# Altium schematic symbol library QBLP595-IG.SchLib: 1 symbol
Pins are listed as number, name and electrical type; pins without a type are passive.

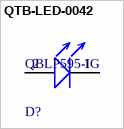
[diagram p0: symbol QTB-LED-0042]

## QTB-LED-0042
designator D?, comment QBLP595-IG
LED GREEN CLEAR 0402 SMD; Manufacturer: QT Brightek (QTB); Luminous Intensity: 600mcd; Viewing Angle: 140°; Forward Voltage: 3.1V; Test Current: 20mA; Dominant Wavelength: 520nm; Lens Style: Flat; Lens Color: Colorless; Lens Size: 0.5mm; Mount: Surface Mount; Case Code (Metric): 1005; Color: Green; Lens Transparency: Clear; Case/Package: 0402; Width: 0.5mm; Case Code (Imperial): 0402; Length: 1mm; Packaging: Tape and Reel; Height: 0.6mm; ComponentLink1Description: Digikey; ComponentLink1URL: https://www.digikey.com/en/products/detail/qt-brightek-qtb/QBLP595-IG/6201907; Manufacturer Part Number: QBLP595-IG; ComponentLink2Description: Datasheet; ComponentLink2URL: https://www.qt-brightek.com/datasheet/QBLP595%20Series.pdf
footprint FP-QBLP595-IG-MFG
pins: 1 CATHODE (-), 2 ANODE (+)